# EAGLE library part SIM_5320 (library Eagle_CAD_parts)
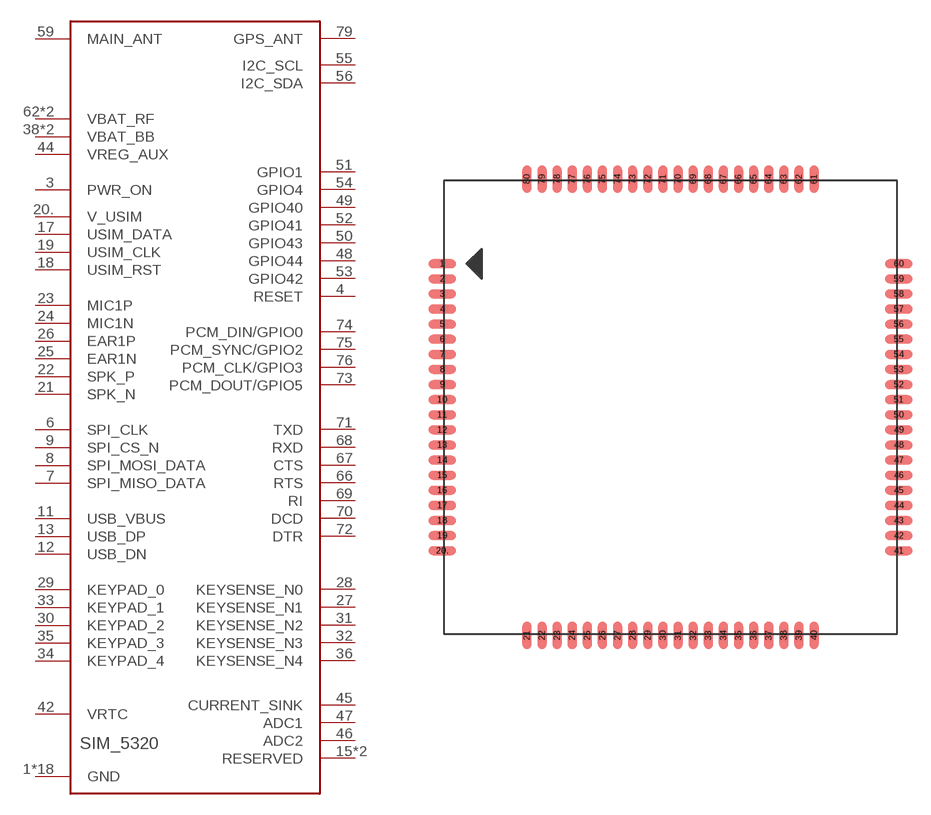
[diagram p43: symbol with the pads of SIM5320_PCKG; footprint SIM5320_PCKG]

Designator prefix -

## SIM_5320  [SIM5320_PCKG]
1  GND
2  GND
3  PWR_ON
4  RESET
5  GND
6  SPI_CLK
7  SPI_MISO_DATA
8  SPI_MOSI_DATA
9  SPI_CS_N
10  GND
11  USB_VBUS
12  USB_DN
13  USB_DP
14  GND
15  RESERVED  nc
16  RESERVED  nc
17  USIM_DATA
18  USIM_RST
19  USIM_CLK
20.  V_USIM
21  SPK_N
22  SPK_P
23  MIC1P
24  MIC1N
25  EAR1N
26  EAR1P
27  KEYSENSE_N1
28  KEYSENSE_N0
29  KEYPAD_0
30  KEYPAD_2
31  KEYSENSE_N2
32  KEYSENSE_N3
33  KEYPAD_1
34  KEYPAD_4
35  KEYPAD_3
36  KEYSENSE_N4
37  GND
38  VBAT_BB
39  VBAT_BB
40  GND
41  GND
42  VRTC
43  GND
44  VREG_AUX
45  CURRENT_SINK
46  ADC2
47  ADC1
48  GPIO44
49  GPIO40
50  GPIO43
51  GPIO1
52  GPIO41
53  GPIO42
54  GPIO4
55  I2C_SCL
56  I2C_SDA
57  GND
58  GND
59  MAIN_ANT
60  GND
61  GND
62  VBAT_RF
63  VBAT_RF
64  GND
65  GND
66  RTS
67  CTS
68  RXD
69  RI
70  DCD
71  TXD
72  DTR
73  PCM_DOUT/GPIO5
74  PCM_DIN/GPIO0
75  PCM_SYNC/GPIO2
76  PCM_CLK/GPIO3
77  GND
78  GND
79  GPS_ANT
80  GND

## Footprint SIM5320_PCKG (pad centres in mm)
smd 1.8 x 0.6: 1 -15.1,9.5; 2 -15.1,8.5; 3 -15.1,7.5; 4 -15.1,6.5; 5 -15.1,5.5; 6 -15.1,4.5; 7 -15.1,3.5; 8 -15.1,2.5; 9 -15.1,1.5; 10 -15.1,0.5; 11 -15.1,-0.5; 12 -15.1,-1.5; 13 -15.1,-2.5; 14 -15.1,-3.5; 15 -15.1,-4.5; 16 -15.1,-5.5; 17 -15.1,-6.5; 18 -15.1,-7.5; 19 -15.1,-8.5; 20. -15.1,-9.5; 41 15.1,-9.5; 42 15.1,-8.5; 43 15.1,-7.5; 44 15.1,-6.5; 45 15.1,-5.5; 46 15.1,-4.5; 47 15.1,-3.5; 48 15.1,-2.5; 49 15.1,-1.5; 50 15.1,-0.5; 51 15.1,0.5; 52 15.1,1.5; 53 15.1,2.5; 54 15.1,3.5; 55 15.1,4.5; 56 15.1,5.5; 57 15.1,6.5; 58 15.1,7.5; 59 15.1,8.5; 60 15.1,9.5
smd 0.6 x 1.8: 21 -9.5,-15.1; 22 -8.5,-15.1; 23 -7.5,-15.1; 24 -6.5,-15.1; 25 -5.5,-15.1; 26 -4.5,-15.1; 27 -3.5,-15.1; 28 -2.5,-15.1; 29 -1.5,-15.1; 30 -0.5,-15.1; 31 0.5,-15.1; 32 1.5,-15.1; 33 2.5,-15.1; 34 3.5,-15.1; 35 4.5,-15.1; 36 5.5,-15.1; 37 6.5,-15.1; 38 7.5,-15.1; 39 8.5,-15.1; 40 9.5,-15.1; 61 9.5,15.1; 62 8.5,15.1; 63 7.5,15.1; 64 6.5,15.1; 65 5.5,15.1; 66 4.5,15.1; 67 3.5,15.1; 68 2.5,15.1; 69 1.5,15.1; 70 0.5,15.1; 71 -0.5,15.1; 72 -1.5,15.1; 73 -2.5,15.1; 74 -3.5,15.1; 75 -4.5,15.1; 76 -5.5,15.1; 77 -6.5,15.1; 78 -7.5,15.1; 79 -8.5,15.1; 80 -9.5,15.1